# EAGLE library part TPS63001DRC (library TPS63001DRC)
TPS6300x High-Efficient Single Inductor Buck-Boost Converter With 1.8-A Switches Source: Datasheet <https://www.ti.com/lit/ds/symlink/tps63002.pdf?HQS=dis-mous-null-mousermode-dsf-pf-null-wwe&ts=1627981401743&ref_url=https%3A%2F%2Fwww.mouser.cn%2F>
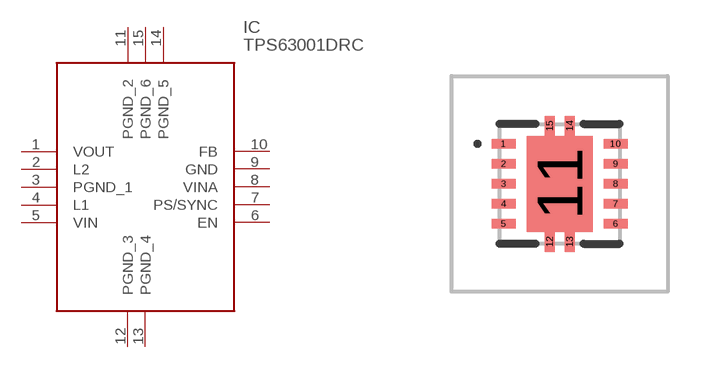
[diagram p0: symbol with the pads of TPS63002DRCT; footprint TPS63002DRCT]

Designator prefix IC

## TPS63001DRC (Description: TPS6300x High-Efficient Single Inductor Buck-Boost Converter With 1.8-A Switches; Height: 1mm; Manufacturer_Name: Texas Instruments; Manufacturer_Part_Number: TPS63001DRC)  [TPS63002DRCT]
1  VOUT
2  L2
3  PGND_1
4  L1
5  VIN
6  EN
7  PS/SYNC
8  VINA
9  GND
10  FB
11  PGND_2
12  PGND_3
13  PGND_4
14  PGND_5
15  PGND_6

## Footprint TPS63002DRCT (pad centres in mm)
DRC0010J_Thickness=1mm
smd 0.6 x 0.24: 1 -1.4,1; 2 -1.4,0.5; 3 -1.4,0; 4 -1.4,-0.5; 5 -1.4,-1; 6 1.4,-1; 7 1.4,-0.5; 8 1.4,0; 9 1.4,0.5; 10 1.4,1
smd 1.65 x 2.4: 11 0,0
smd 0.25 x 0.5: 12 -0.25,-1.45; 13 0.25,-1.45; 14 0.25,1.45; 15 -0.25,1.45